# Altium footprint library DO 35.PcbLib: 1 footprints
Each footprint in its own frame and in the unit in brackets; x right, y up, seen from the top. Pads: shape width x height; smd on the part's side, far side on the other; paste and mask are expansions set on the pad; w line width, h text height; cw(c..) or ccw(c..) is an arc to the next point about the centre after c.
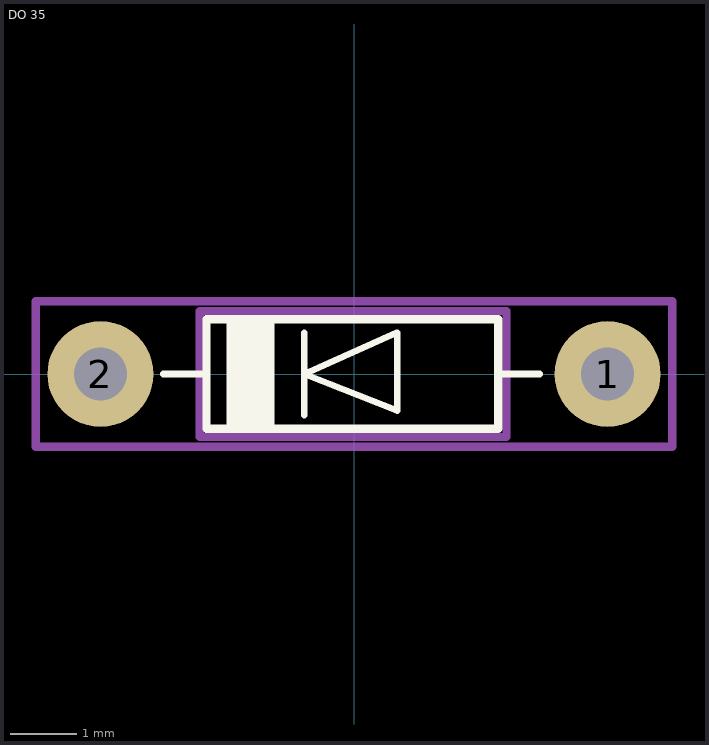
[diagram p0: the footprint, top view; thin cyan lines are the x and y axes]

## DO 35 [mm] "Diode"
height 1.6
pads (2):
  round 1.6 hole 0.8: 1(3.825,0) 2(-3.825,0)
Top Overlay:
  rectangle: -1.925,-0.85 -1.2,0.85
  lines w0.1: -2.875,0 -2.225,0 ; -0.75,-0.625 -0.75,0.625 ; 2.175,0 2.8,0 ; -0.75,0 0.65,0.625 0.65,-0.55 -0.75,0
  lines w0.127: -2.225,-0.825 2.175,-0.825 2.175,0.825 -2.225,0.825 -2.225,-0.825
Mechanical 13:
  lines w0.127: -2.325,-0.95 -2.325,0.95 2.3,0.95 2.3,-0.95 -2.325,-0.95
Mechanical 15:
  lines w0.127: -4.8,-1.1 4.8,-1.1 4.8,1.1 -4.8,1.1 -4.8,-1.1
3D body "User Library-DO-35-300mil.STEP": height 2.46, standoff -1.95, extent -4.1,-0.96 4.08,0.96